# EAGLE library part AT89C2051 (library atmel)
80C31 MICROCONTROLLER 2 Kbytes FLASH 2.7 V
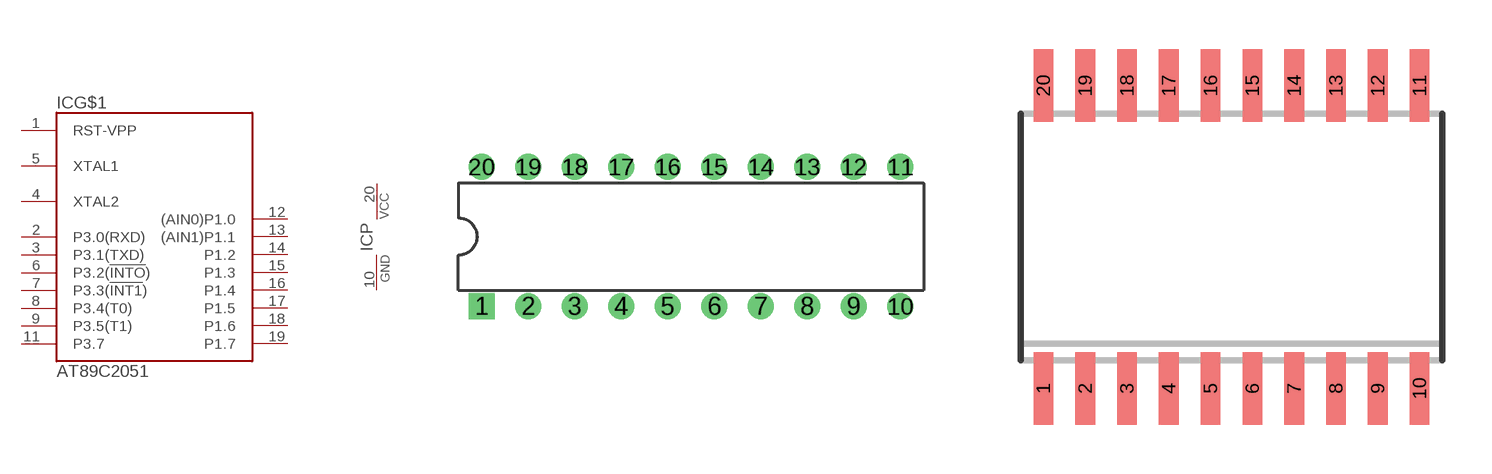
[diagram p11: symbol with the pads of DIL20; footprints DIL20, SO20W]

Designator prefix IC; gates G$1=89C2051 P=PWR

## AT89C2051P  [DIL20]
1  G$1:RST-VPP  in
2  G$1:P3.0(RXD)
3  G$1:P3.1(TXD)
4  G$1:XTAL2  out
5  G$1:XTAL1  in
6  G$1:P3.2(!INTO!)
7  G$1:P3.3(!INT1!)
8  G$1:P3.4(T0)
9  G$1:P3.5(T1)
10  P:GND  pwr
11  G$1:P3.7
12  G$1:(AIN0)P1.0
13  G$1:(AIN1)P1.1
14  G$1:P1.2
15  G$1:P1.3
16  G$1:P1.4
17  G$1:P1.5
18  G$1:P1.6
19  G$1:P1.7
20  P:VCC  pwr

## AT89C2051S  [SO20W]
Pads as for DIL20

## Footprint DIL20 (pad centres in mm)
DIL package, pin row distance 300mil
drill 0.8 pad 1.4 square: 1 -11.43,-3.81
drill 0.8 pad 1.4: 2 -8.89,-3.81; 3 -6.35,-3.81; 4 -3.81,-3.81; 5 -1.27,-3.81; 6 1.27,-3.81; 7 3.81,-3.81; 8 6.35,-3.81; 9 8.89,-3.81; 10 11.43,-3.81; 11 11.43,3.81; 12 8.89,3.81; 13 6.35,3.81; 14 3.81,3.81; 15 1.27,3.81; 16 -1.27,3.81; 17 -3.81,3.81; 18 -6.35,3.81; 19 -8.89,3.81; 20 -11.43,3.81

## Footprint SO20W (pad centres in mm)
Small Outline IC, 300mil body width, 50mil lead pitch package/pad dimensions according to IPC-SM-782, RLP No. 306A JEDEC: MS-013 AC IPC: SO20W other notations: SO-20W, SOIC20W, SOIC-20W
smd 0.6 x 2.2: 1 -5.715,-4.6; 2 -4.445,-4.6; 3 -3.175,-4.6; 4 -1.905,-4.6; 5 -0.635,-4.6; 6 0.635,-4.6; 7 1.905,-4.6; 8 3.175,-4.6; 9 4.445,-4.6; 10 5.715,-4.6; 11 5.715,4.6; 12 4.445,4.6; 13 3.175,4.6; 14 1.905,4.6; 15 0.635,4.6; 16 -0.635,4.6; 17 -1.905,4.6; 18 -3.175,4.6; 19 -4.445,4.6; 20 -5.715,4.6